# EAGLE library part BOARD_EDGE_36PIN (library SSI)
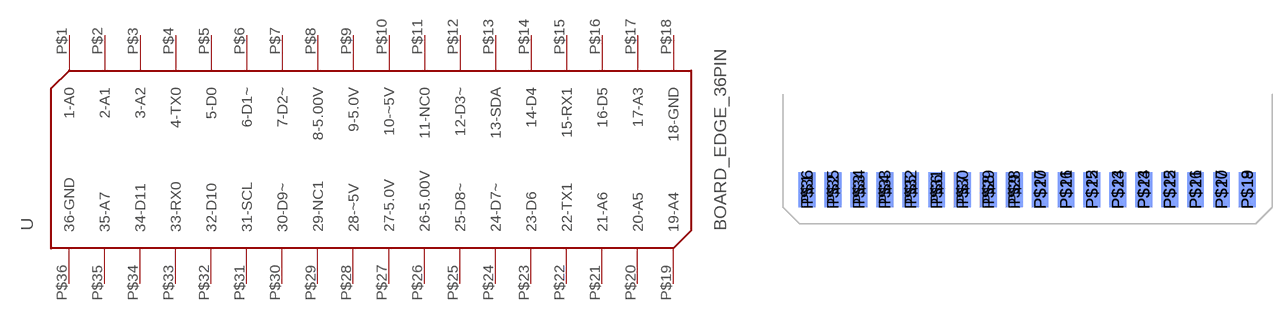
[diagram p6: symbol with the pads of BOARD_EDGE_36PIN; footprint BOARD_EDGE_36PIN]

Designator prefix -

## BOARD_EDGE_36PIN  [BOARD_EDGE_36PIN]
P$1  1-A0
P$2  2-A1
P$3  3-A2
P$4  4-TX0
P$5  5-D0
P$6  6-D1~
P$7  7-D2~
P$8  8-5.00V
P$9  9-5.0V
P$10  10-~5V
P$11  11-NC0
P$12  12-D3~
P$13  13-SDA
P$14  14-D4
P$15  15-RX1
P$16  16-D5
P$17  17-A3
P$18  18-GND
P$19  19-A4
P$20  20-A5
P$21  21-A6
P$22  22-TX1
P$23  23-D6
P$24  24-D7~
P$25  25-D8~
P$26  26-5.00V
P$27  27-5.0V
P$28  28-~5V
P$29  29-NC1
P$30  30-D9~
P$31  31-SCL
P$32  32-D10
P$33  33-RX0
P$34  34-D11
P$35  35-A7
P$36  36-GND

## Footprint BOARD_EDGE_36PIN (pad centres in mm)
smd 1.651 x 3.454: P$1 2.362,3.353; P$2 4.902,3.353; P$3 7.442,3.353; P$4 9.982,3.353; P$5 12.522,3.353; P$6 15.062,3.353; P$7 17.602,3.353; P$8 20.142,3.353; P$9 22.682,3.353; P$10 25.222,3.353; P$11 27.762,3.353; P$12 30.302,3.353; P$13 32.842,3.353; P$14 35.382,3.353; P$15 37.922,3.353; P$16 40.462,3.353; P$17 43.002,3.353; P$18 45.542,3.353
smd 1.651 x 3.454 bottom: P$19 45.542,3.353; P$20 43.002,3.353; P$21 40.462,3.353; P$22 37.922,3.353; P$23 35.382,3.353; P$24 32.842,3.353; P$25 30.302,3.353; P$26 27.762,3.353; P$27 25.222,3.353; P$28 22.682,3.353; P$29 20.142,3.353; P$30 17.602,3.353; P$31 15.062,3.353; P$32 12.522,3.353; P$33 9.982,3.353; P$34 7.442,3.353; P$35 4.902,3.353; P$36 2.362,3.353